# EAGLE library part BQ27411 (library TI Power and Battery)
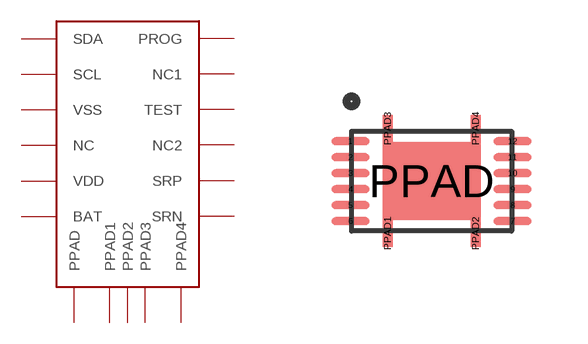
[diagram p3: symbol with the pads of VSON12-2.5X4MM; footprint VSON12-2.5X4MM]

Designator prefix -

## BQ27411  [VSON12-2.5X4MM]
1  SDA
2  SCL
3  VSS
4  NC
5  VDD
6  BAT
7  SRN
8  SRP
9  NC1
10  TEST
11  NC2
12  PROG
PPAD  PPAD
PPAD1  PPAD1
PPAD2  PPAD2
PPAD3  PPAD3
PPAD4  PPAD4

## Footprint VSON12-2.5X4MM (pad centres in mm)
smd 0.95 x 0.2: 1 -2.025,1; 2 -2.025,0.6; 3 -2.025,0.2; 4 -2.025,-0.2; 5 -2.025,-0.6; 6 -2.025,-1; 7 2.025,-1; 8 2.025,-0.6; 9 2.025,-0.2; 10 2.025,0.2; 11 2.025,0.6; 12 2.025,1
smd 2.45 x 1.95: PPAD 0,0
smd 0.25 x 0.675: PPAD1 -1.1,-1.312; PPAD2 1.1,-1.312; PPAD3 -1.1,1.312; PPAD4 1.1,1.312